# Altium schematic symbol library Connectors.SchLib: 38 symbols
Pins are listed as number, name and electrical type; pins without a type are passive.

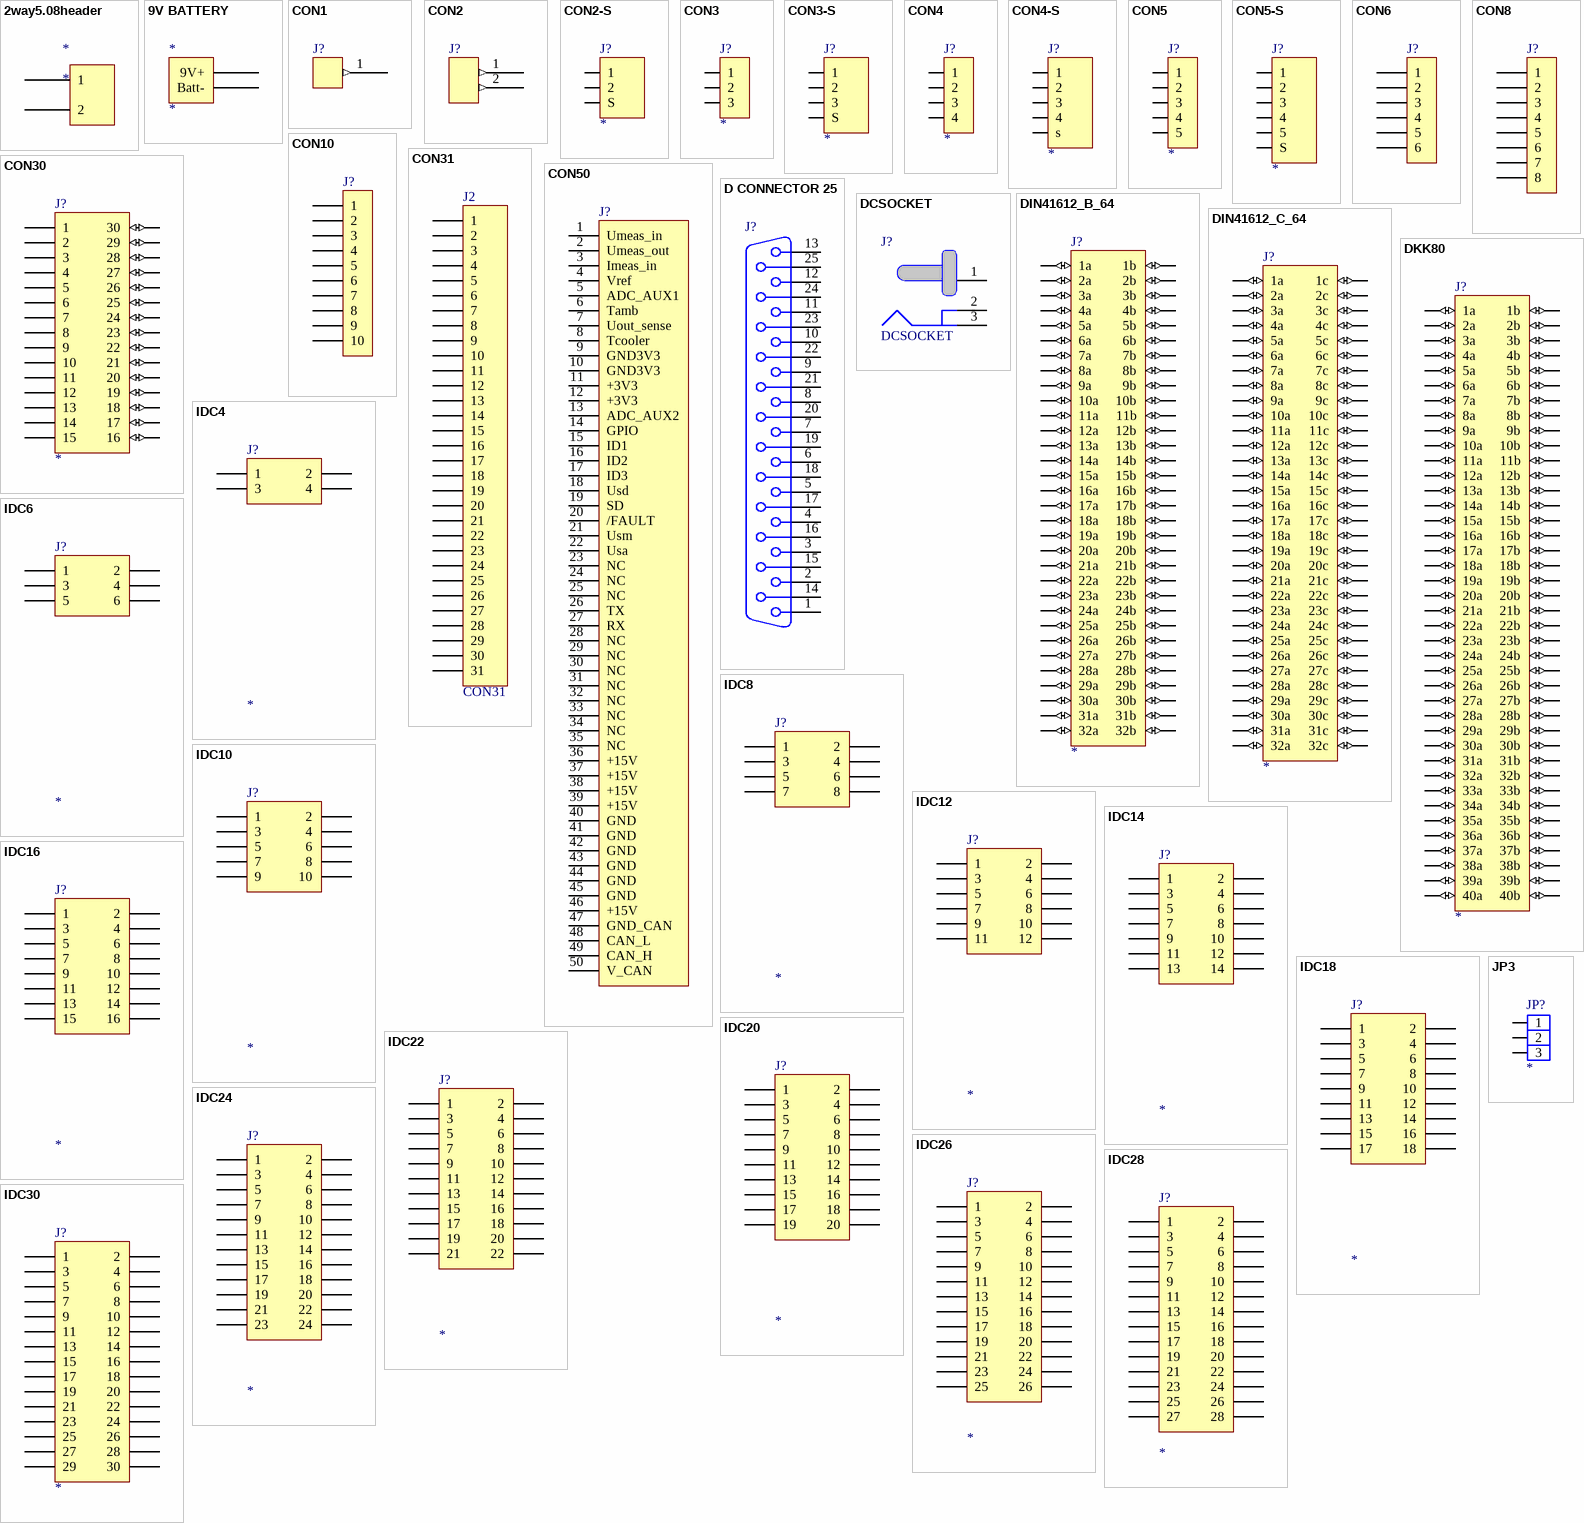
[diagram p0: symbols 2way5.08header to JP3]

## 2way5.08header
designator *
footprint RightAngle2way
pins: 1, 2

## 9V BATTERY
designator *
footprint 9V Batt Con (PCB mount 9V Battery Connections)
pins: Batt+ 9V+, Batt-

## CON1
designator J?
pins: 1 (out)

## CON2
designator J?
pins: 1 (out), 2 (out)

## CON2-S
designator J?
Connector, 2 pin, with shield @ S
footprint TRIAD3F
footprint TRIAD5F
footprint TRIAD3M
footprint TRIAD5M
pins: 0 S (power), 1 (io), 2 (io)

## CON3
designator J?
Connector
footprint TRIAD3F
footprint TRIAD3M
footprint WEIDMULLER-SL3.5/3/90G - DUPLICATE (3 way 3.5 mm 10A Screw Terminal header)
pins: 1, 2, 3

## CON3-S
designator J?
Connector
footprint TRIAD3F
footprint TRIAD3M
pins: 0 S (power), 1, 2, 3

## CON4
designator J?
Connector
footprint TRIAD4M
footprint TRIAD4F
footprint RJ45
footprint HDR2X2 (Model Description)
pins: 1, 2, 3, 4

## CON4-S
designator J?
Connector
footprint TRIAD4M
footprint TRIAD4F
footprint RJ45
pins: 0 s (power), 1, 2, 3, 4

## CON5
designator J?
Connector
footprint TRIAD5F
footprint TRIAD5M
pins: 1, 2, 3, 4, 5

## CON5-S
designator J?
Connector, 2 pin, with shield @ S
footprint TRIAD5F
footprint TRIAD5M
pins: 0 S (power), 1 (io), 2 (io), 3 (io), 4 (io), 5 (io)

## CON6
designator J?
6 Pin header; Farnell Weidmuller-3.5: 617-490; Farnell Weidmuller-3.5 - Opposite: 617-398 or 155-391; Farnell Harwin-1.25: 866-179; Farnell Harwin-Opposite: 889-192, 889-246
footprint WEIDMULLER-SL3.5/6/90G (6 way 3.5 mm 10A Screw Terminal header)
footprint HARWIN-1.25-SMT (Harwin 1.25mm SMT 6-way Header)
pins: 1, 2, 3, 4, 5, 6

## CON8
designator J?
8 Pin 3.5mm Screw Terminal  header; Farnell: 617-507; Farnell - Opposite: 617-404 or 155-408
footprint WEIDMULLER-SL3.5/8/90G (8 way 3.5 mm 10A Screw Terminal header)
pins: 1, 2, 3, 4, 5, 6, 7, 8

## CON10
designator J?
10 pin, right angle, ribbon con with claws; RS: 120-8182; Price: 5.46
footprint IDC10
pins: 1, 2, 3, 4, 5, 6, 7, 8, 9, 10

## CON30
designator J?
Connector
footprint SIMM30
pins: 1, 2, 3, 4, 5, 6, 7, 8, 9, 10, 11, 12, 13, 14, 15, 16 (io), 17 (io), 18 (io), 19 (io), 20 (io), 21 (io), 22 (io), 23 (io), 24 (io), 25 (io), 26 (io), 27 (io), 28 (io), 29 (io), 30 (io)

## CON31
designator J2
Connector
footprint 91911-31XXX-HEADER
pins: 1, 2, 3, 4, 5, 6, 7, 8, 9, 10, 11, 12, 13, 14, 15, 16, 17, 18, 19, 20, 21, 22, 23, 24, 25, 26, 27, 28, 29, 30, 31

## CON50
designator J?
Biel Control Board Interconnector
footprint BL12/50M
pins: 1 Umeas_in, 2 Umeas_out, 3 Imeas_in, 4 Vref, 5 ADC_AUX1, 6 Tamb, 7 Uout_sense, 8 Tcooler, 9 GND3V3, 10 GND3V3, 11 +3V3, 12 +3V3, 13 ADC_AUX2, 14 GPIO, 15 ID1, 16 ID2, 17 ID3, 18 Usd, 19 SD, 20 /FAULT, 21 Usm, 22 Usa, 23 NC, 24 NC, 25 NC, 26 TX, 27 RX, 28 NC, 29 NC, 30 NC, 31 NC, 32 NC, 33 NC, 34 NC, 35 NC, 36 +15V, 37 +15V, 38 +15V, 39 +15V, 40 GND, 41 GND, 42 GND, 43 GND, 44 GND, 45 GND, 46 +15V, 47 GND_CAN, 48 CAN_L, 49 CAN_H, 50 V_CAN

## D CONNECTOR 25
designator J?
Receptacle Assembly, 25 Position, Right Angle; Manufacturer: Generic Components; Package Information: Latest Revision: U; Class I: Connector; Positions: 25; Published: 15-Jun-2001; Revision: July-2002: Re-released for DXP Platform.; Datasheet: (19-Mar-1999); Package Reference: 787202; Publisher: Altium Limited; Orientation: Right Angle; Gender: Receptacle
pins: 1, 2, 3, 4, 5, 6, 7, 8, 9, 10, 11, 12, 13, 14, 15, 16, 17, 18, 19, 20, 21, 22, 23, 24, 25

## DCSOCKET
designator J?
footprint DCSOCKET
pins: 1, 2, 3

## DIN41612_B_64
designator J?
DIN41612 connector, type B, 64pin
footprint DIN41612_B_M64_90
footprint DIN41612_B_M64_180
footprint DIN41612_B_F64_180
footprint DIN41612_Q_F64_90
pins: 1a (io), 1b (io), 2a (io), 2b (io), 3a (io), 3b (io), 4a (io), 4b (io), 5a (io), 5b (io), 6a (io), 6b (io), 7a (io), 7b (io), 8a (io), 8b (io), 9a (io), 9b (io), 10a (io), 10b (io), 11a (io), 11b (io), 12a (io), 12b (io), 13a (io), 13b (io), 14a (io), 14b (io), 15a (io), 15b (io), 16a (io), 16b (io), 17a (io), 17b (io), 18a (io), 18b (io), 19a (io), 19b (io), 20a (io), 20b (io), 21a (io), 21b (io), 22a (io), 22b (io), 23a (io), 23b (io), 24a (io), 24b (io), 25a (io), 25b (io), 26a (io), 26b (io), 27a (io), 27b (io), 28a (io), 28b (io), 29a (io), 29b (io), 30a (io), 30b (io), 31a (io), 31b (io), 32a (io), 32b (io)

## DIN41612_C_64
designator J?
DIN41612 connector, type C, 64pin
footprint DIN41612_C_M64_90
footprint DIN41612_C_M64_180
footprint DIN41612_C_F64_180
footprint DIN41612_R_F64_90
pins: 1a (io), 1c (io), 2a (io), 2c (io), 3a (io), 3c (io), 4a (io), 4c (io), 5a (io), 5c (io), 6a (io), 6c (io), 7a (io), 7c (io), 8a (io), 8c (io), 9a (io), 9c (io), 10a (io), 10c (io), 11a (io), 11c (io), 12a (io), 12c (io), 13a (io), 13c (io), 14a (io), 14c (io), 15a (io), 15c (io), 16a (io), 16c (io), 17a (io), 17c (io), 18a (io), 18c (io), 19a (io), 19c (io), 20a (io), 20c (io), 21a (io), 21c (io), 22a (io), 22c (io), 23a (io), 23c (io), 24a (io), 24c (io), 25a (io), 25c (io), 26a (io), 26c (io), 27a (io), 27c (io), 28a (io), 28c (io), 29a (io), 29c (io), 30a (io), 30c (io), 31a (io), 31c (io), 32a (io), 32c (io)

## DKK80
designator J?
DKK connector, type DHB, 80pin
footprint DIN41612_B_M64_90
footprint DIN41612_B_M64_180
footprint DIN41612_B_F64_180
pins: 1a (io), 1b (io), 2a (io), 2b (io), 3a (io), 3b (io), 4a (io), 4b (io), 5a (io), 5b (io), 6a (io), 6b (io), 7a (io), 7b (io), 8a (io), 8b (io), 9a (io), 9b (io), 10a (io), 10b (io), 11a (io), 11b (io), 12a (io), 12b (io), 13a (io), 13b (io), 14a (io), 14b (io), 15a (io), 15b (io), 16a (io), 16b (io), 17a (io), 17b (io), 18a (io), 18b (io), 19a (io), 19b (io), 20a (io), 20b (io), 21a (io), 21b (io), 22a (io), 22b (io), 23a (io), 23b (io), 24a (io), 24b (io), 25a (io), 25b (io), 26a (io), 26b (io), 27a (io), 27b (io), 28a (io), 28b (io), 29a (io), 29b (io), 30a (io), 30b (io), 31a (io), 31b (io), 32a (io), 32b (io), 33 33b (io), 33 33a (io), 34 34b (io), 34 34a (io), 35 35b (io), 35 35a (io), 36 36b (io), 36 36a (io), 37 37b (io), 37 37a (io), 38 38b (io), 38 38a (io), 39 39b (io), 39 39a (io), 40 40b (io), 40 40a (io)

## IDC4
designator J?
Connector
footprint IDC4
pins: 1, 2, 3, 4

## IDC6
designator J?
Connector
footprint IDC6
pins: 1, 2, 3, 4, 5, 6

## IDC8
designator J?
Connector
footprint IDC8
pins: 1, 2, 3, 4, 5, 6, 7, 8

## IDC10
designator J?
Connector
footprint IDC10
pins: 1, 2, 3, 4, 5, 6, 7, 8, 9, 10

## IDC12
designator J?
Connector
footprint IDC12
pins: 1, 2, 3, 4, 5, 6, 7, 8, 9, 10, 11, 12

## IDC14
designator J?
Connector
footprint IDC14
pins: 1, 2, 3, 4, 5, 6, 7, 8, 9, 10, 11, 12, 13, 14

## IDC16
designator J?
Connector
footprint IDC16
pins: 1, 2, 3, 4, 5, 6, 7, 8, 9, 10, 11, 12, 13, 14, 15, 16

## IDC18
designator J?
Connector
footprint IDC18
pins: 1, 2, 3, 4, 5, 6, 7, 8, 9, 10, 11, 12, 13, 14, 15, 16, 17, 18

## IDC20
designator J?
Connector
footprint IDC20
pins: 1, 2, 3, 4, 5, 6, 7, 8, 9, 10, 11, 12, 13, 14, 15, 16, 17, 18, 19, 20

## IDC22
designator J?
Connector
footprint IDC22
pins: 1, 2, 3, 4, 5, 6, 7, 8, 9, 10, 11, 12, 13, 14, 15, 16, 17, 18, 19, 20, 21, 22

## IDC24
designator J?
Connector
footprint IDC24
pins: 1, 2, 3, 4, 5, 6, 7, 8, 9, 10, 11, 12, 13, 14, 15, 16, 17, 18, 19, 20, 21, 22, 23, 24

## IDC26
designator J?
Connector
footprint IDC26
pins: 1, 2, 3, 4, 5, 6, 7, 8, 9, 10, 11, 12, 13, 14, 15, 16, 17, 18, 19, 20, 21, 22, 23, 24, 25, 26

## IDC28
designator J?
Connector
footprint IDC28
pins: 1, 2, 3, 4, 5, 6, 7, 8, 9, 10, 11, 12, 13, 14, 15, 16, 17, 18, 19, 20, 21, 22, 23, 24, 25, 26, 27, 28

## IDC30
designator J?
Connector
footprint IDC30
pins: 1, 2, 3, 4, 5, 6, 7, 8, 9, 10, 11, 12, 13, 14, 15, 16, 17, 18, 19, 20, 21, 22, 23, 24, 25, 26, 27, 28, 29, 30

## JP3
designator JP?
Jumper 3pin
footprint JMP3
pins: 1, 2, 3

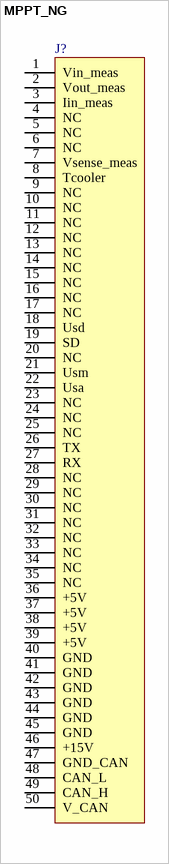
[diagram p1: symbol MPPT_NG]

## MPPT_NG
designator J?
Biel Control Board Interconnector
footprint BL12/50M
pins: 1 Vin_meas, 2 Vout_meas, 3 Iin_meas, 4 NC, 5 NC, 6 NC, 7 Vsense_meas, 8 Tcooler, 9 NC, 10 NC, 11 NC, 12 NC, 13 NC, 14 NC, 15 NC, 16 NC, 17 NC, 18 Usd, 19 SD, 20 NC, 21 Usm, 22 Usa, 23 NC, 24 NC, 25 NC, 26 TX, 27 RX, 28 NC, 29 NC, 30 NC, 31 NC, 32 NC, 33 NC, 34 NC, 35 NC, 36 +5V, 37 +5V, 38 +5V, 39 +5V, 40 GND, 41 GND, 42 GND, 43 GND, 44 GND, 45 GND, 46 +15V, 47 GND_CAN, 48 CAN_L, 49 CAN_H, 50 V_CAN